# Altium schematic symbol library Schlib[1].SchLib: 27 symbols (part 3 of 4)
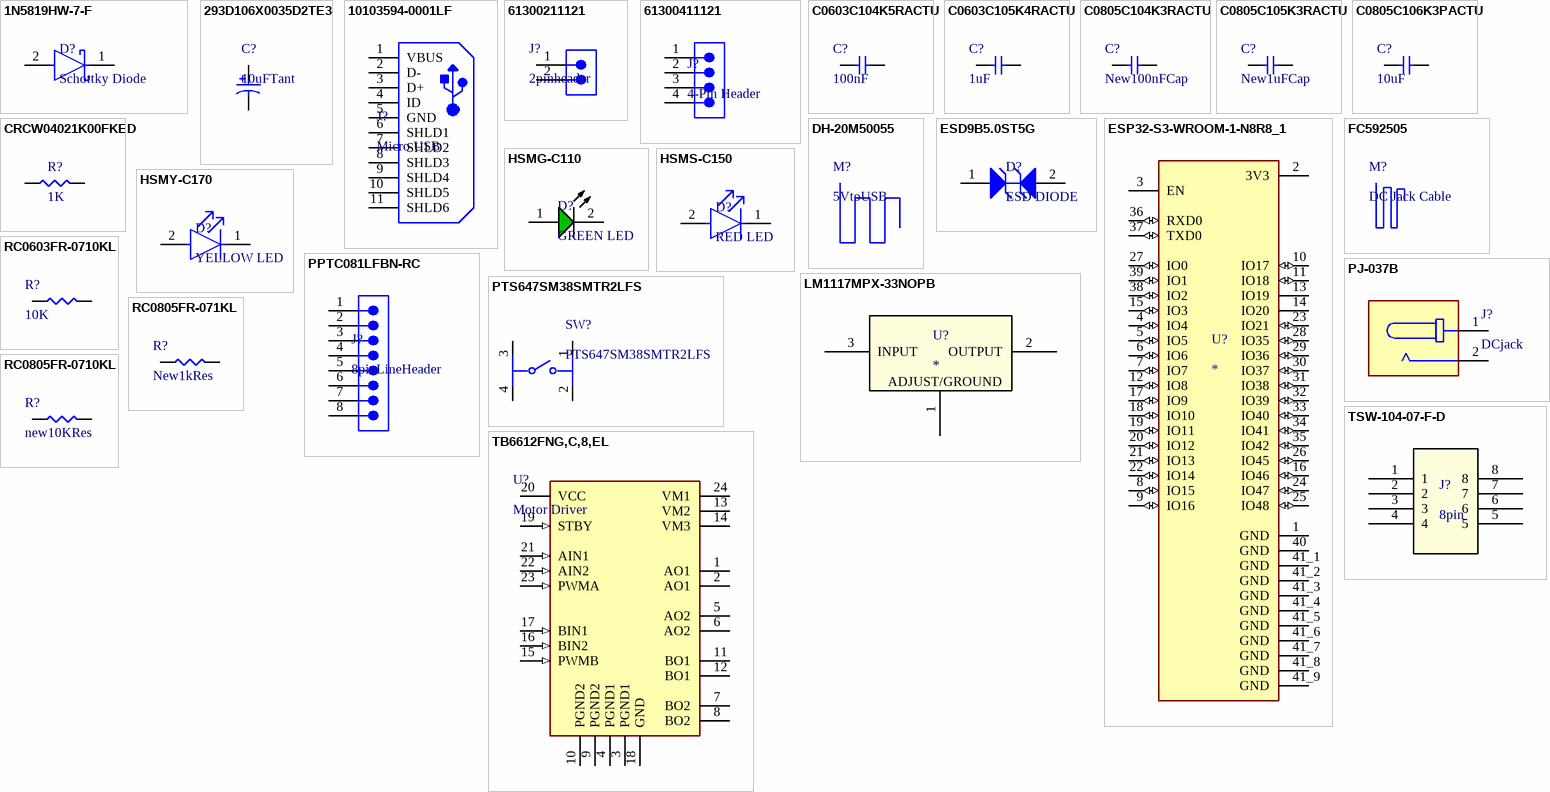
[diagram p2: symbols 1N5819HW-7-F to TSW-104-07-F-D]

## HSMG-C110
designator D?, comment GREEN LED
Surface Mount ChipLED Single Color LED, Green, Clear Untinted Nondiffused; Manufacturer: Avago; Manufacturer Part Number: HSMG-C110; Dominant Wavelength: 572nm; Forward Current: 25mA; Forward Voltage: 2.6V; Lens Color: Clear, White; Luminous Intensity: 4.5mcd; Max Power Dissipation: 78mW; Number of Circuits: 1; Peak Wavelength: 570nm; Power Rating: 65mW; Reverse Voltage: 5V; Shape: Rectangular; Test Current: 20mA; Viewing Angle: 130°; Voltage Rating (DC): 2.2V; Supplier: DigiKey; Supplier Part Number: 516-1452-1-ND; RoHS: Compliant; Category: LEDs; Stock: 2649; Pricing: 1=0.28, 10=0.194, 100=0.1365, 500=0.1102, 1000=0.10152 (USD); Case/Package: SMD/SMT; China RoHS: Compliant; Color: Green; Contact Plating: Gold; Depth: 1mm; Height: 1mm; Illumination Color: Green; Lead Free: Lead Free; Length: 3.2mm; Lens Style: Diffused; Lens Transparency: Diffused; Lifecycle Status: Production; Max Operating Temperature: 85°C; Min Operating Temperature: -40°C; Mounting Technology: Surface Mount; Number of Elements: 1; Number of LEDs: 1; Pins: 2; Number of Terminals: 3; Packaging: Cut Tape; Power Dissipation: 78mW; Radiation Hardening: No; REACH SVHC: Yes; Schedule B: 8541402000|8541402000|8541402000|8541402000|8541402000; Wavelength: 572nm; Width: 1.5mm; ComponentLink1URL: https://datasheet.octopart.com:443/HSMG-C110-Broadcom-datasheet-11546876.pdf?src-supplier=Avago; ComponentLink1Description: https://datasheet.octopart.com:443/HSMG-C110-Broadcom-datasheet-11546876.pdf?src-supplier=Avago; ComponentLink2URL: https://datasheet.octopart.com:443/HSMG-C110-Broadcom-datasheet-179995514.pdf?src-supplier=IHS; ComponentLink2Description: https://datasheet.octopart.com:443/HSMG-C110-Broadcom-datasheet-179995514.pdf?src-supplier=IHS; ComponentLink3URL: https://datasheet.octopart.com:443/HSMG-C110-Avago-datasheet-10307877.pdf?src-supplier=Newark; ComponentLink3Description: https://datasheet.octopart.com:443/HSMG-C110-Avago-datasheet-10307877.pdf?src-supplier=Newark; ComponentLink4URL: https://datasheet.octopart.com:443/HSMG-C110-Broadcom-datasheet-26698224.pdf?src-supplier=Newark; ComponentLink4Description: https://datasheet.octopart.com:443/HSMG-C110-Broadcom-datasheet-26698224.pdf?src-supplier=Newark; ComponentLink5URL: https://datasheet.octopart.com:443/HSMG-C110-Avago-datasheet-8329607.pdf?src-supplier=Future+Electronics; ComponentLink5Description: https://datasheet.octopart.com:443/HSMG-C110-Avago-datasheet-8329607.pdf?src-supplier=Future+Electronics; ComponentLink6URL: https://datasheet.octopart.com:443/HSMG-C110-Avago-datasheet-7834016.pdf?src-supplier=Jameco; ComponentLink6Description: https://datasheet.octopart.com:443/HSMG-C110-Avago-datasheet-7834016.pdf?src-supplier=Jameco; ComponentLink7URL: https://datasheet.octopart.com:443/HSMG-C110-Avago-datasheet-8432.pdf?src-supplier=DigiKey; ComponentLink7Description: https://datasheet.octopart.com:443/HSMG-C110-Avago-datasheet-8432.pdf?src-supplier=DigiKey
footprint AVAG-HSMX-C110_V (SMD, 3-Leads, Body 3.2x1mm)
pins: 1 A, 2 K

## HSMS-C150
designator D?, comment RED LED
LED Uni-Color Hi-Eff. Red 630nm 2-Pin Chip LED T/R / LED RED DIFFUSED 1206 SMD; Manufacturer: Avago; Manufacturer Part Number: HSMS-C150; Color: Orange; Dominant Wavelength: 626nm; Forward Current: 25mA; Forward Voltage: 2.6V; Lens Color: Clear, White; Luminous Intensity: 2.8mcd; Max Junction Temperature (Tj): 95°C; Number of Circuits: 1; Power Dissipation: 65mW; Reverse Voltage: 5V; Shape: Rectangular; Test Current: 20mA; Viewing Angle: 170°; Supplier: DigiKey; Supplier Part Number: 516-1440-1-ND; RoHS: Compliant; Category: LEDs; Stock: 85183; Pricing: 1=0.29, 10=0.201, 100=0.1412, 500=0.11414, 1000=0.10521 (USD); Case/Package: 1206; Case Code (Imperial): 1206; Case Code (Metric): 3216; China RoHS: Compliant; Depth: 1.6mm; Height: 1.1mm; Illumination Color: Red; Lead Free: Lead Free; Length: 3.2mm; Lens Style: Diffused; Lens Transparency: Diffused; Lifecycle Status: Production; Max Operating Temperature: 85°C; Min Operating Temperature: -40°C; Mounting Technology: Surface Mount; Number of Elements: 1; Number of LEDs: 1; Pins: 2; Number of Terminals: 2; Packaging: Cut Tape; Peak Wavelength: 630nm; Power Rating: 65mW; Radiation Hardening: No; REACH SVHC: Yes; Schedule B: 8541402000|8541402000|8541402000|8541402000|8541402000; Terminal Pitch: 2.7mm; Wavelength: 626nm; Width: 1.6mm; ComponentLink1URL: https://datasheet.octopart.com:443/HSMS-C150-Broadcom-datasheet-11546876.pdf?src-supplier=Farnell; ComponentLink1Description: https://datasheet.octopart.com:443/HSMS-C150-Broadcom-datasheet-11546876.pdf?src-supplier=Farnell; ComponentLink2URL: https://datasheet.octopart.com:443/HSMS-C150.-Avago-datasheet-505973.pdf?src-supplier=Farnell; ComponentLink2Description: https://datasheet.octopart.com:443/HSMS-C150.-Avago-datasheet-505973.pdf?src-supplier=Farnell; ComponentLink3URL: https://datasheet.octopart.com:443/HSMS-C150.-Avago-datasheet-500352.pdf?src-supplier=Farnell; ComponentLink3Description: https://datasheet.octopart.com:443/HSMS-C150.-Avago-datasheet-500352.pdf?src-supplier=Farnell; ComponentLink4URL: https://datasheet.octopart.com:443/HSMS-C150-Broadcom-datasheet-179995514.pdf?src-supplier=IHS; ComponentLink4Description: https://datasheet.octopart.com:443/HSMS-C150-Broadcom-datasheet-179995514.pdf?src-supplier=IHS; ComponentLink5URL: https://datasheet.octopart.com:443/HSMS-C150-Avago-datasheet-10307877.pdf?src-supplier=Newark; ComponentLink5Description: https://datasheet.octopart.com:443/HSMS-C150-Avago-datasheet-10307877.pdf?src-supplier=Newark; ComponentLink6URL: https://datasheet.octopart.com:443/HSMS-C150-Avago-datasheet-14175028.pdf?src-supplier=iiiC; ComponentLink6Description: https://datasheet.octopart.com:443/HSMS-C150-Avago-datasheet-14175028.pdf?src-supplier=iiiC; ComponentLink7URL: https://datasheet.octopart.com:443/HSMS-C150-Avago-datasheet-7559354.pdf?src-supplier=Future+Electronics; ComponentLink7Description: https://datasheet.octopart.com:443/HSMS-C150-Avago-datasheet-7559354.pdf?src-supplier=Future+Electronics; ComponentLink8URL: https://datasheet.octopart.com:443/HSMS-C150-Avago-datasheet-7278276.pdf?src-supplier=Jameco; ComponentLink8Description: https://datasheet.octopart.com:443/HSMS-C150-Avago-datasheet-7278276.pdf?src-supplier=Jameco; ComponentLink9URL: https://datasheet.octopart.com:443/HSMS-C150-Avago-datasheet-9899724.pdf?src-supplier=RS+(Formerly+Allied+Electronics); ComponentLink9Description: https://datasheet.octopart.com:443/HSMS-C150-Avago-datasheet-9899724.pdf?src-supplier=RS+(Formerly+Allied+Electronics); ComponentLink10URL: https://datasheet.octopart.com:443/HSMS-C150-Avago-datasheet-8432.pdf?src-supplier=DigiKey; ComponentLink10Description: https://datasheet.octopart.com:443/HSMS-C150-Avago-datasheet-8432.pdf?src-supplier=DigiKey
footprint FP-HSMS-C150-MFG
pins: 1 C, 2 A

## HSMY-C170
designator D?, comment YELLOW LED
LED YELLOW DIFFUSED CHIP SMD Yellow 586nm LED Indication - Discrete 2.1V 0805 (2012 Metric); Manufacturer: Avago; Manufacturer Part Number: HSMY-C170; Forward Current: 20mA; Forward Voltage: 2.6V; Lens Color: Clear, White; Luminous Intensity: 2.8mcd; Max Power Dissipation: 52mW; Number of Circuits: 1; Peak Wavelength: 589nm; Reverse Voltage: 5V; Shape: Rectangular; Viewing Angle: 170°; Supplier: DigiKey; Supplier Part Number: 516-1433-1-ND; RoHS: Compliant; Category: LEDs; Stock: 56777; Pricing: 1=0.3, 10=0.204, 100=0.1435, 500=0.1161, 1000=0.10704, 2000=0.09931 (USD); Case/Package: 0805; Case Code (Imperial): 0805; Case Code (Metric): 2012; China RoHS: Compliant; Color: Yellow; Contact Plating: Gold; Depth: 1.25mm; Dominant Wavelength: 586nm; Height: 800µm; Illumination Color: Yellow; Lead Free: Lead Free; Length: 2mm; Lens Style: Diffused; Lens Transparency: Diffused; Lifecycle Status: Production; Max Operating Temperature: 85°C; Min Operating Temperature: -40°C; Mounting Technology: Surface Mount; Number of Elements: 1; Number of LEDs: 1; Pins: 2; Number of Terminals: 2; Packaging: Cut Tape; Power Dissipation: 52mW; Power Rating: 52mW; Radiation Hardening: No; REACH SVHC: Yes; Schedule B: 8541402000|8541402000|8541402000|8541402000|8541402000; Terminal Pitch: 1.6mm; Test Current: 20mA; Wavelength: 586nm; Width: 1.25mm; ComponentLink1URL: https://datasheet.octopart.com:443/HSMY-C170-Broadcom-datasheet-11546876.pdf?src-supplier=Avago; ComponentLink1Description: https://datasheet.octopart.com:443/HSMY-C170-Broadcom-datasheet-11546876.pdf?src-supplier=Avago; ComponentLink2URL: https://datasheet.octopart.com:443/HSMY-C170-Broadcom-datasheet-179995514.pdf?src-supplier=IHS; ComponentLink2Description: https://datasheet.octopart.com:443/HSMY-C170-Broadcom-datasheet-179995514.pdf?src-supplier=IHS; ComponentLink3URL: https://datasheet.octopart.com:443/HSMY-C170-Avago-datasheet-10307877.pdf?src-supplier=Newark; ComponentLink3Description: https://datasheet.octopart.com:443/HSMY-C170-Avago-datasheet-10307877.pdf?src-supplier=Newark; ComponentLink4URL: https://datasheet.octopart.com:443/HSMY-C170-Broadcom-datasheet-26698234.pdf?src-supplier=Newark; ComponentLink4Description: https://datasheet.octopart.com:443/HSMY-C170-Broadcom-datasheet-26698234.pdf?src-supplier=Newark; ComponentLink5URL: https://datasheet.octopart.com:443/HSMY-C170-Avago-datasheet-7559354.pdf?src-supplier=element14+APAC; ComponentLink5Description: https://datasheet.octopart.com:443/HSMY-C170-Avago-datasheet-7559354.pdf?src-supplier=element14+APAC; ComponentLink6URL: https://datasheet.octopart.com:443/HSMY-C170-Avago-datasheet-8432.pdf?src-supplier=Farnell; ComponentLink6Description: https://datasheet.octopart.com:443/HSMY-C170-Avago-datasheet-8432.pdf?src-supplier=Farnell; ComponentLink7URL: https://datasheet.octopart.com:443/HSMY-C170-Avago-datasheet-10459301.pdf?src-supplier=Jameco; ComponentLink7Description: https://datasheet.octopart.com:443/HSMY-C170-Avago-datasheet-10459301.pdf?src-supplier=Jameco
footprint LED_HSMY-C170
pins: 1 C, 2 A

## LM1117MPX-33NOPB
designator U?
800-mA 15-V linear voltage regulator 800-mA 15-V linear voltage regulator; Manufacturer: onsemi; Manufacturer Part Number: LM1117MPX-33NOPB; Manufacturer Lifecycle Status: ACTIVE; Accuracy: 1%; Dropout Voltage: 1.07V; Max Supply Voltage: 15V; Max Junction Temperature (Tj): 150°C; Min Input Voltage: 4.75V; Number of Channels: 1; Output Current: 800mA; Output Voltage: 3.3V; Voltage Tolerance: 2%; Supplier: DigiKey; Supplier Part Number: 488-LM1117MPX-33NOPBDKR-ND; RoHS: Compliant; Category: LDO Voltage Regulators; Stock: 7642; Pricing: 1=0.57, 10=0.4, 25=0.3576, 100=0.3116, 250=0.28964, 500=0.27638, 1000=0.26546 (USD); Ambient Temperature Range High: 125°C; Case/Package: SOT-223; China RoHS: Compliant; Height: 1.8mm; Height - Seated (Max): 1.8mm; Length: 6.5mm; Lifecycle Status: Production; Max Operating Temperature: 125°C; Min Operating Temperature: 0°C; Number of Circuits: 1; Number of Outputs: 1; Number of Terminals: 4; REACH SVHC: Yes; Terminal Pitch: 2.3mm; Width: 3.5mm; ComponentLink1URL: https://datasheet.octopart.com:443/LM1117MPX-33NOPB-onsemi-datasheet-164331219.pdf?src-supplier=Upverter; ComponentLink1Description: https://datasheet.octopart.com:443/LM1117MPX-33NOPB-onsemi-datasheet-164331219.pdf?src-supplier=Upverter; ComponentLink2URL: https://sigma.octopart.com:443/138897734/technical_drawing/onsemi-LM1117MPX-33NOPB.pdf?src-supplier=Upverter; ComponentLink2Description: https://sigma.octopart.com:443/138897734/technical_drawing/onsemi-LM1117MPX-33NOPB.pdf?src-supplier=Upverter; ComponentLink3URL: https://datasheet.octopart.com:443/LM1117MPX-33NOPB-ON-Semiconductor-datasheet-141931467.pdf?src-supplier=JRH+Electronics; ComponentLink3Description: https://datasheet.octopart.com:443/LM1117MPX-33NOPB-ON-Semiconductor-datasheet-141931467.pdf?src-supplier=JRH+Electronics; ComponentLink4URL: https://datasheet.octopart.com:443/LM1117MPX-33NOPB-onsemi-datasheet-180961324.pdf?src-supplier=IHS; ComponentLink4Description: https://datasheet.octopart.com:443/LM1117MPX-33NOPB-onsemi-datasheet-180961324.pdf?src-supplier=IHS; ComponentLink5URL: https://datasheet.octopart.com:443/LM1117MPX-33NOPB-onsemi-datasheet-168933395.pdf?src-supplier=Future+Electronics; ComponentLink5Description: https://datasheet.octopart.com:443/LM1117MPX-33NOPB-onsemi-datasheet-168933395.pdf?src-supplier=Future+Electronics; ComponentLink6URL: http://sigma.octopart.com:80/reach_statement/ON-Semiconductor-company-79.pdf?src-supplier=Compliance+Statements; ComponentLink6Description: http://sigma.octopart.com:80/reach_statement/ON-Semiconductor-company-79.pdf?src-supplier=Compliance+Statements; ComponentLink7URL: https://octopart.com:443/opatz8j6/c1?t=Iw_9X4aOcrUl-cPA66dx16ukuJxMweABa0km8qscBKXSU1vYCRq_e4FXJATwxyh124XiaTPtNJ3B9yRxDq_EhavdUU79idWvw_QVFCQ2fS5CQqS4hTb1ifBnFTR-Su749rPEe84Onex6ks4rk9ucP4YVcK4nPzU0XZG6GDKd_pBht-2jM3AE4nGkwXEe6Ksn9x1m2VuOf8AcrWjARzJEmpW0n5uUxMgVrQJ7fVm_XNdLbK-fij8J55BUuF-vYILHBnvsIretFbyyyfqB2jts5YEtD5ypze82yLluaey9lD5qNXSO72sWgsX8XjPSqf-JEzZbFkY95Oi87kzI9m6odTwj0wO7px43NJiKE00YhpVnv7QYBQ&src-supplier=Compliance+Statements; ComponentLink7Description: https://octopart.com:443/opatz8j6/c1?t=Iw_9X4aOcrUl-cPA66dx16ukuJxMweABa0km8qscBKXSU1vYCRq_e4FXJATwxyh124XiaTPtNJ3B9yRxDq_EhavdUU79idWvw_QVFCQ2fS5CQqS4hTb1ifBnFTR-Su749rPEe84Onex6ks4rk9ucP4YVcK4nPzU0XZG6GDKd_pBht-2jM3AE4nGkwXEe6Ksn9x1m2VuOf8AcrWjARzJEmpW0n5uUxMgVrQJ7fVm_XNdLbK-fij8J55BUuF-vYILHBnvsIretFbyyyfqB2jts5YEtD5ypze82yLluaey9lD5qNXSO72sWgsX8XjPSqf-JEzZbFkY95Oi87kzI9m6odTwj0wO7px43NJiKE00YhpVnv7QYBQ&src-supplier=Compliance+Statements
footprint SOT223-318H_OSI
pins: 1 ADJUST/GROUND, 2 OUTPUT (power), 3 INPUT

## PJ-037B
designator J?, comment DCjack
2.5 x 6.5 mm, 2.5 A, Horizontal, Through Hole, Dc Power Jack Connector; Manufacturer: Same Sky; Manufacturer Part Number: PJ-037B; Current Rating: 2.5A; Inside Diameter: 2.5mm; Number of Conductors: 2; Outside Diameter: 6.5mm; Shielding: No; Voltage Rating: 24V; Supplier: DigiKey; Supplier Part Number: CP-037B-ND; RoHS: Compliant; Category: Power Connectors; Stock: 35819; Pricing: 1=0.51, 10=0.431, 25=0.4044, 50=0.385, 100=0.3665, 250=0.34352, 500=0.3271, 1000=0.31147, 2500=0.29196 (USD); Contact Material: Brass; Contact Plating: Tin; Lifecycle Status: Production; Mounting Technology: Through Hole; REACH SVHC: Yes; Schedule B: 8536695050, 8536695050|8536695050, 8536695050|8536695050|8536695050, 8536695050|8536695050|8536695050|8536695050; Voltage Rating (DC): 24V; ComponentLink1URL: https://datasheet.octopart.com:443/PJ-037B-Same-Sky-datasheet-188828269.pdf?src-supplier=Same+Sky; ComponentLink1Description: https://datasheet.octopart.com:443/PJ-037B-Same-Sky-datasheet-188828269.pdf?src-supplier=Same+Sky; ComponentLink2URL: https://datasheet.octopart.com:443/PJ-037B-Same-Sky-datasheet-181917287.pdf?src-supplier=Same+Sky; ComponentLink2Description: https://datasheet.octopart.com:443/PJ-037B-Same-Sky-datasheet-181917287.pdf?src-supplier=Same+Sky; ComponentLink3URL: https://datasheet.octopart.com:443/PJ-037B-Same-Sky-datasheet-181917286.pdf?src-supplier=Same+Sky; ComponentLink3Description: https://datasheet.octopart.com:443/PJ-037B-Same-Sky-datasheet-181917286.pdf?src-supplier=Same+Sky; ComponentLink4URL: https://datasheet.octopart.com:443/PJ-037B-CUI-Devices-datasheet-175924779.pdf?src-supplier=Same+Sky; ComponentLink4Description: https://datasheet.octopart.com:443/PJ-037B-CUI-Devices-datasheet-175924779.pdf?src-supplier=Same+Sky; ComponentLink5URL: https://datasheet.octopart.com:443/PJ-037B-CUI-Devices-datasheet-137941219.pdf?src-supplier=Same+Sky; ComponentLink5Description: https://datasheet.octopart.com:443/PJ-037B-CUI-Devices-datasheet-137941219.pdf?src-supplier=Same+Sky; ComponentLink6URL: https://datasheet.octopart.com:443/PJ-037B-CUI-Devices-datasheet-180437400.pdf?src-supplier=IHS; ComponentLink6Description: https://datasheet.octopart.com:443/PJ-037B-CUI-Devices-datasheet-180437400.pdf?src-supplier=IHS; ComponentLink7URL: https://datasheet.octopart.com:443/PJ-037B-Same-Sky-datasheet-182880908.pdf?src-supplier=Electro+Sonic; ComponentLink7Description: https://datasheet.octopart.com:443/PJ-037B-Same-Sky-datasheet-182880908.pdf?src-supplier=Electro+Sonic; ComponentLink8URL: https://datasheet.octopart.com:443/PJ-037B-CUI-Devices-datasheet-175925580.pdf?src-supplier=Master+Electronics; ComponentLink8Description: https://datasheet.octopart.com:443/PJ-037B-CUI-Devices-datasheet-175925580.pdf?src-supplier=Master+Electronics; ComponentLink9URL: https://datasheet.octopart.com:443/PJ-037B-CUI-Devices-datasheet-141000227.pdf?src-supplier=Master+Electronics; ComponentLink9Description: https://datasheet.octopart.com:443/PJ-037B-CUI-Devices-datasheet-141000227.pdf?src-supplier=Master+Electronics; ComponentLink10URL: https://datasheet.octopart.com:443/PJ-037B-CUI-Devices-datasheet-103110664.pdf?src-supplier=Master+Electronics; ComponentLink10Description: https://datasheet.octopart.com:443/PJ-037B-CUI-Devices-datasheet-103110664.pdf?src-supplier=Master+Electronics; ComponentLink11URL: https://datasheet.octopart.com:443/PJ-037B-Same-Sky-datasheet-189105172.pdf?src-supplier=Master+Electronics; ComponentLink11Description: https://datasheet.octopart.com:443/PJ-037B-Same-Sky-datasheet-189105172.pdf?src-supplier=Master+Electronics; ComponentLink12URL: https://datasheet.octopart.com:443/PJ-037B-Same-Sky-datasheet-182049853.pdf?src-supplier=Future+Electronics; ComponentLink12Description: https://datasheet.octopart.com:443/PJ-037B-Same-Sky-datasheet-182049853.pdf?src-supplier=Future+Electronics; ComponentLink13URL: https://datasheet.octopart.com:443/PJ-037B-CUI-Devices-datasheet-175923562.pdf?src-supplier=Future+Electronics; ComponentLink13Description: https://datasheet.octopart.com:443/PJ-037B-CUI-Devices-datasheet-175923562.pdf?src-supplier=Future+Electronics; ComponentLink14URL: https://datasheet.octopart.com:443/PJ-037B-CUI-Devices-datasheet-137760685.pdf?src-supplier=Future+Electronics; ComponentLink14Description: https://datasheet.octopart.com:443/PJ-037B-CUI-Devices-datasheet-137760685.pdf?src-supplier=Future+Electronics; ComponentLink15URL: https://datasheet.octopart.com:443/PJ-037B-CUI-Devices-datasheet-175927596.pdf?src-supplier=CUI+Devices+SCT; ComponentLink15Description: https://datasheet.octopart.com:443/PJ-037B-CUI-Devices-datasheet-175927596.pdf?src-supplier=CUI+Devices+SCT; ComponentLink16URL: https://datasheet.octopart.com:443/PJ-037B-CUI-Devices-datasheet-142370758.pdf?src-supplier=CUI+Devices+SCT; ComponentLink16Description: https://datasheet.octopart.com:443/PJ-037B-CUI-Devices-datasheet-142370758.pdf?src-supplier=CUI+Devices+SCT; ComponentLink17URL: https://octopart.com:443/opatz8j6/c1?t=ugIBICy-aquGENpJ5UVE1kONiWm4Jmye08y8HK-0dHugvEvDShjkU2vkALkg81eMeYqXvZhRpG0R8tPN40EocjuskCAh7XxVN8JS1a7nX6yDn71JifNfY55yLydMfUID1IxMe-aG7_idBqI2aybvW_B1_vyNQqKRAl91P9Ny1aLJlgl7jdVw_pwtRfT4Ujqw-bsi_OwdGpNYzqY4SWKQwVW7yzOyktRHaazl5dbIhoFUwRdxDdlgsrKZx7IYVSzXwdqlLXdu6s_3ABRwIRLewOWFjmWEjHc_DG0qkv0PjiuITWn6CbdvXjGiMH0odnPZUlRjUK2KM54VuGAzqWG-d-5NxI2_5YZNMA&src-supplier=Compliance+Statements; ComponentLink17Description: https://octopart.com:443/opatz8j6/c1?t=ugIBICy-aquGENpJ5UVE1kONiWm4Jmye08y8HK-0dHugvEvDShjkU2vkALkg81eMeYqXvZhRpG0R8tPN40EocjuskCAh7XxVN8JS1a7nX6yDn71JifNfY55yLydMfUID1IxMe-aG7_idBqI2aybvW_B1_vyNQqKRAl91P9Ny1aLJlgl7jdVw_pwtRfT4Ujqw-bsi_OwdGpNYzqY4SWKQwVW7yzOyktRHaazl5dbIhoFUwRdxDdlgsrKZx7IYVSzXwdqlLXdu6s_3ABRwIRLewOWFjmWEjHc_DG0qkv0PjiuITWn6CbdvXjGiMH0odnPZUlRjUK2KM54VuGAzqWG-d-5NxI2_5YZNMA&src-supplier=Compliance+Statements; ComponentLink18URL: https://octopart.com:443/opatz8j6/c1?t=xY83QJYeMgOnbRCoY0MJZ0kIo5YAXWIf_KfjZSMQzpzyrl-9JxtFTr69jnymLJkbjzK7Lh6EscJK24nUCwiICczRq7NMp0xGoLCpTn4gxZ7zYxKXZakIj_zjT2uutoWIv4bSHRlvdWmCCDEJby7LfgMYru2nGKwlO6BQJX4zEfs7hC0wK24gbVPjc3w0Y3STzCc5vE401SZFfM-fhIhrbaea6tBhZCBd9UTpy56_2aftF9KpGkqVHM1PWBKk6XRT528tR6sLSTUs4PvC1IA-VCaeEn6UjqcO_AYW1W_1CbF2_ohw-l0h8owecFjxbO9CCibDaBOKVsGDoWbcOMeCxhnLSnLp&src-supplier=Compliance+Statements; ComponentLink18Description: https://octopart.com:443/opatz8j6/c1?t=xY83QJYeMgOnbRCoY0MJZ0kIo5YAXWIf_KfjZSMQzpzyrl-9JxtFTr69jnymLJkbjzK7Lh6EscJK24nUCwiICczRq7NMp0xGoLCpTn4gxZ7zYxKXZakIj_zjT2uutoWIv4bSHRlvdWmCCDEJby7LfgMYru2nGKwlO6BQJX4zEfs7hC0wK24gbVPjc3w0Y3STzCc5vE401SZFfM-fhIhrbaea6tBhZCBd9UTpy56_2aftF9KpGkqVHM1PWBKk6XRT528tR6sLSTUs4PvC1IA-VCaeEn6UjqcO_AYW1W_1CbF2_ohw-l0h8owecFjxbO9CCibDaBOKVsGDoWbcOMeCxhnLSnLp&src-supplier=Compliance+Statements; ComponentLink19URL: https://octopart.com:443/opatz8j6/c1?t=FzGMKkhviOWT8PLmgXVIsGD7OC-ZKcDZSdb9rjzUd-4CdYnadLpmQ77JdXOitmMu4wWORmNPfxYZ17cA6TaEO6Mm1ZgdO8lXcwXJppTA043W0gQ2P4U-7E6ujoGSvuNzQJMAYjSV5q33INZyelMHWI8ENsIoBunWKjTSudwCbgSa82zECeXZpdhIyaUBolyjB6K4eLrM_w-l1dTNFW2JX6bvmSbC1AwvuqFFcPMpPK-A1MOExm4S1J8WQqkV9WeO-mmR1e_4r-vTZ2n8Sy88Wsu_EYkFLu4NtxQoLu7MVh6vC8N1AZg7LWiCGS2Ok64pLyM3awZnEG6CfUT4hTLqw-HWZb4BW3AwSw&src-supplier=Compliance+Statements; ComponentLink19Description: https://octopart.com:443/opatz8j6/c1?t=FzGMKkhviOWT8PLmgXVIsGD7OC-ZKcDZSdb9rjzUd-4CdYnadLpmQ77JdXOitmMu4wWORmNPfxYZ17cA6TaEO6Mm1ZgdO8lXcwXJppTA043W0gQ2P4U-7E6ujoGSvuNzQJMAYjSV5q33INZyelMHWI8ENsIoBunWKjTSudwCbgSa82zECeXZpdhIyaUBolyjB6K4eLrM_w-l1dTNFW2JX6bvmSbC1AwvuqFFcPMpPK-A1MOExm4S1J8WQqkV9WeO-mmR1e_4r-vTZ2n8Sy88Wsu_EYkFLu4NtxQoLu7MVh6vC8N1AZg7LWiCGS2Ok64pLyM3awZnEG6CfUT4hTLqw-HWZb4BW3AwSw&src-supplier=Compliance+Statements; ComponentLink20URL: https://octopart.com:443/opatz8j6/c1?t=yyvtSRofrppp-5KrzO7cVDg_UkI1Q6UEwrOzVOQOIp0n2wkAoZ4RrB1A8L3Fx-rNVFbAG4w0SpWUnSE2EYvc_xCoNcFsz4mWjRDYbK7qXyFxie6BJuhhldDhR2CTLFpcPNAGUkq5xMGzJTFkzHUG2Xp4Owqs3EwllU3_e3OsiGRn8D0IJRAOELGfXrDY2XigBaSyPkyUIYCXsKazcIG_RxmnY6Umsst-42oAFgQzEcY0KbnV4ZcHR8-zLKv--FJ4Mts6nsXDR5OGkd2fB0oceMNf2TFHBMNUzSQjnwujgTz6-O4srKLl763V3rMq7gnR7z5AAFxOnZINBCQgGlAyc9xKVT2w&src-supplier=Compliance+Statements; ComponentLink20Description: https://octopart.com:443/opatz8j6/c1?t=yyvtSRofrppp-5KrzO7cVDg_UkI1Q6UEwrOzVOQOIp0n2wkAoZ4RrB1A8L3Fx-rNVFbAG4w0SpWUnSE2EYvc_xCoNcFsz4mWjRDYbK7qXyFxie6BJuhhldDhR2CTLFpcPNAGUkq5xMGzJTFkzHUG2Xp4Owqs3EwllU3_e3OsiGRn8D0IJRAOELGfXrDY2XigBaSyPkyUIYCXsKazcIG_RxmnY6Umsst-42oAFgQzEcY0KbnV4ZcHR8-zLKv--FJ4Mts6nsXDR5OGkd2fB0oceMNf2TFHBMNUzSQjnwujgTz6-O4srKLl763V3rMq7gnR7z5AAFxOnZINBCQgGlAyc9xKVT2w&src-supplier=Compliance+Statements
footprint CUI_PJ-037B
pins: 1, 2

## PPTC081LFBN-RC
designator J?, comment 8pinLineHeader
Female, 8C, Straight, .100"CC; 3.20mm Tail, No Mt. 100u" Tin; PBT, Phos Bronze, 105 C; Manufacturer: Sullins; Manufacturer Part Number: PPTC081LFBN-RC; Connector Type: Header, Socket; Current Rating: 3A; Dielectric Material: Polyester; Number of Positions: 8; Pitch: 2.54mm; Plating Thickness: 2.54µm; Supplier: DigiKey; Supplier Part Number: S7006-ND; RoHS: Compliant; Category: Card Edge Connectors; Stock: 36413; Pricing: 1=0.51, 10=0.435, 400=0.33535, 800=0.31933, 1200=0.31031, 5200=0.2798, 10000=0.26719 (USD); Color: Black; Contact Gender: Female; Contact Material: Bronze; Contact Plating: Tin; Height: 8.5mm; Housing Material: Plastic; Lead Free: Lead Free; Length: 20.8mm; Lifecycle Status: Production; Max Operating Temperature: 105°C; Min Operating Temperature: -40°C; Mounting Technology: Through Hole; Pins: 8; Number of Rows: 1; Packaging: Bulk; REACH SVHC: Yes; Terminal Pitch: 2.54mm; Termination: Solder; Width: 2.5mm; ComponentLink1URL: https://datasheet.octopart.com:443/PPTC081LFBN-RC-Sullins-datasheet-138810743.pdf?src-supplier=IHS; ComponentLink1Description: https://datasheet.octopart.com:443/PPTC081LFBN-RC-Sullins-datasheet-138810743.pdf?src-supplier=IHS; ComponentLink2URL: https://datasheet.octopart.com:443/PPTC081LFBN-RC-Sullins-datasheet-47864048.pdf?src-supplier=Upverter; ComponentLink2Description: https://datasheet.octopart.com:443/PPTC081LFBN-RC-Sullins-datasheet-47864048.pdf?src-supplier=Upverter; ComponentLink3URL: https://datasheet.octopart.com:443/PPTC081LFBN-RC-Sullins-datasheet-41308905.pdf?src-supplier=Future+Electronics; ComponentLink3Description: https://datasheet.octopart.com:443/PPTC081LFBN-RC-Sullins-datasheet-41308905.pdf?src-supplier=Future+Electronics; ComponentLink4URL: https://datasheet.octopart.com:443/PPTC081LFBN-RC-Sullins-datasheet-12511165.pdf?src-supplier=Future+Electronics; ComponentLink4Description: https://datasheet.octopart.com:443/PPTC081LFBN-RC-Sullins-datasheet-12511165.pdf?src-supplier=Future+Electronics
footprint PPTC081LFBN-RC
pins: 1, 2, 3, 4, 5, 6, 7, 8

## PTS647SM38SMTR2LFS
designator SW?
Switch Tactile OFF Mom SPST Round Button Gull Wing 50mA 12VDC 100000Cycles 1.77N Surface Mount T/R; Manufacturer: C&K Components; Contact Resistance: 100mΩ; Electrical Life: 100kcycles; Max Voltage Rating (DC): 12V; Number of Positions: 1; Operating Force: 2.26N; Supplier: DigiKey; Supplier Part Number: 108-PTS647SM38SMTR2LFSCT-ND; Manufacturer Part Number: PTS647SM38SMTR2LFS; RoHS: Compliant; Category: Tactile Switches; Stock: 37562; Pricing: 1=0.26, 10=0.226, 25=0.2116, 100=0.1897, 250=0.17588, 500=0.16596, 1000=0.15666 (USD); Contact Current Rating: 50mA; Height: 2.9mm; Insulation Resistance: 100MΩ; Length: 4.5mm; Life (Cycles): 100kcycles; Lifecycle Status: Production; Max Current Rating: 50mA; Max Operating Temperature: 70°C; Min Operating Temperature: -40°C; Mounting Technology: Surface Mount; REACH SVHC: Yes; Schedule B: 8536509065, 8536509065|8536509065, 8536509065|8536509065|8536509065, 8536509065|8536509065|8536509065|8536509065; Throw Configuration: SPST; Voltage Rating (DC): 12V; ComponentLink1URL: https://datasheet.octopart.com:443/PTS647SM38SMTR2LFS-C%26K-Components-datasheet-180017464.pdf?src-supplier=IHS; ComponentLink1Description: https://datasheet.octopart.com:443/PTS647SM38SMTR2LFS-C%26K-Components-datasheet-180017464.pdf?src-supplier=IHS; ComponentLink2URL: https://datasheet.octopart.com:443/PTS647SM38SMTR2LFS-C%26K-Components-datasheet-117317067.pdf?src-supplier=Future+Electronics; ComponentLink2Description: https://datasheet.octopart.com:443/PTS647SM38SMTR2LFS-C%26K-Components-datasheet-117317067.pdf?src-supplier=Future+Electronics; ComponentLink3URL: https://datasheet.octopart.com:443/PTS647SM38SMTR2-LFS-C%26K-Components-datasheet-175422368.pdf?src-supplier=Farnell; ComponentLink3Description: https://datasheet.octopart.com:443/PTS647SM38SMTR2-LFS-C%26K-Components-datasheet-175422368.pdf?src-supplier=Farnell; ComponentLink4URL: https://datasheet.octopart.com:443/PTS647SM38SMTR2LFS-C%26K-Components-datasheet-145017121.pdf?src-supplier=Electro+Sonic; ComponentLink4Description: https://datasheet.octopart.com:443/PTS647SM38SMTR2LFS-C%26K-Components-datasheet-145017121.pdf?src-supplier=Electro+Sonic; ComponentLink5URL: https://datasheet.octopart.com:443/PTS-647-SM38-SMTR2-LFS-C%26K-Components-datasheet-119449707.pdf?src-supplier=RS+(Formerly+Allied+Electronics); ComponentLink5Description: https://datasheet.octopart.com:443/PTS-647-SM38-SMTR2-LFS-C%26K-Components-datasheet-119449707.pdf?src-supplier=RS+(Formerly+Allied+Electronics)
footprint FP-PTS647SM38SMTR2LFS-MFG
pins: 1, 2, 3, 4

## RC0603FR-0710KL
designator R?, comment 10K
100mW Thick Film Resistors ±100ppm/℃ ±1% 10kΩ 0603 Chip Resistor - Surface Mount ROHS; Manufacturer: Yageo Group; Manufacturer Part Number: RC0603FR-0710KL; Temperature Coefficient: 100ppm/°C; Voltage Rating: 75V; Voltage Rating (DC): 50V; Supplier: DigiKey; Supplier Part Number: 311-10.0KHRDKR-ND; RoHS: Compliant; Category: Chip SMD Resistors; Stock: 8811581; Pricing: 1=0.1, 10=0.006, 25=0.0052 (USD); Case/Package: 0603; Case Code (Imperial): 0603; Case Code (Metric): 0603; China RoHS: Non-Compliant; Composition: Thick Film; Depth: 800µm; Height: 450µm; Lead Free: Lead Free; Lead Pitch: 300µm; Length: 1.6mm; Lifecycle Status: Production; Max Operating Temperature: 155°C; Military Standard: Not; Min Operating Temperature: -55°C; Mounting Technology: Surface Mount; Pins: 2; Number of Terminals: 2; Packaging: Tape & Reel; Power Dissipation: 100mW; Power Rating: 100mW; REACH SVHC: Yes; Value: 10kΩ; Schedule B: 8533210045, 8533210045|8533210045|8533210045|8533210045|8533210045|8533210045|8533210045|8533210045|8533210045|8533210045|8533210045|8533210045|8533210045|8533210045|8533210045|8533210045|8533210045|8533210045|8533210045|8533210045|8533210045|8533210045|8533210045|85; Termination: SMD/SMT; Tolerance: 1%; Weight: 2.012816mg; Width: 800µm; Working Voltage: 75V; ComponentLink1URL: https://datasheet.octopart.com:443/RC0603FR-0710KL-Yageo-datasheet-175887523.pdf?src-supplier=IHS; ComponentLink1Description: https://datasheet.octopart.com:443/RC0603FR-0710KL-Yageo-datasheet-175887523.pdf?src-supplier=IHS; ComponentLink2URL: https://datasheet.octopart.com:443/RC0603FR-0710KL-Yageo-datasheet-103092701.pdf?src-supplier=Upverter; ComponentLink2Description: https://datasheet.octopart.com:443/RC0603FR-0710KL-Yageo-datasheet-103092701.pdf?src-supplier=Upverter; ComponentLink3URL: https://datasheet.octopart.com:443/RC0603FR-0710KL-Yageo-datasheet-98239111.pdf?src-supplier=Upverter; ComponentLink3Description: https://datasheet.octopart.com:443/RC0603FR-0710KL-Yageo-datasheet-98239111.pdf?src-supplier=Upverter; ComponentLink4URL: https://datasheet.octopart.com:443/RC0603FR-0710KL-Yageo-datasheet-141265859.pdf?src-supplier=Upverter; ComponentLink4Description: https://datasheet.octopart.com:443/RC0603FR-0710KL-Yageo-datasheet-141265859.pdf?src-supplier=Upverter; ComponentLink5URL: https://sigma.octopart.com:443/138820526/technical_drawing/Yageo-RC0603FR-0710KL.pdf?src-supplier=Upverter; ComponentLink5Description: https://sigma.octopart.com:443/138820526/technical_drawing/Yageo-RC0603FR-0710KL.pdf?src-supplier=Upverter; ComponentLink6URL: https://datasheet.octopart.com:443/RC0603FR-0710KL-Yageo-datasheet-8328172.pdf?src-supplier=Farnell; ComponentLink6Description: https://datasheet.octopart.com:443/RC0603FR-0710KL-Yageo-datasheet-8328172.pdf?src-supplier=Farnell; ComponentLink7URL: https://datasheet.octopart.com:443/RC0603FR-0710KL-Yageo-datasheet-13691069.pdf?src-supplier=Farnell; ComponentLink7Description: https://datasheet.octopart.com:443/RC0603FR-0710KL-Yageo-datasheet-13691069.pdf?src-supplier=Farnell; ComponentLink8URL: https://datasheet.octopart.com:443/RC0603FR-0710KL-Yageo-datasheet-62067350.pdf?src-supplier=element14+APAC; ComponentLink8Description: https://datasheet.octopart.com:443/RC0603FR-0710KL-Yageo-datasheet-62067350.pdf?src-supplier=element14+APAC; ComponentLink9URL: https://datasheet.octopart.com:443/RC0603FR-0710KL-Yageo-datasheet-17842380.pdf?src-supplier=element14+APAC; ComponentLink9Description: https://datasheet.octopart.com:443/RC0603FR-0710KL-Yageo-datasheet-17842380.pdf?src-supplier=element14+APAC; ComponentLink10URL: https://datasheet.octopart.com:443/RC0603FR-0710KL-Yageo-datasheet-15599030.pdf?src-supplier=Future+Electronics; ComponentLink10Description: https://datasheet.octopart.com:443/RC0603FR-0710KL-Yageo-datasheet-15599030.pdf?src-supplier=Future+Electronics; ComponentLink11URL: https://datasheet.octopart.com:443/RC0603FR-0710KL-Yageo-Group-datasheet-176638170.pdf?src-supplier=Future+Electronics; ComponentLink11Description: https://datasheet.octopart.com:443/RC0603FR-0710KL-Yageo-Group-datasheet-176638170.pdf?src-supplier=Future+Electronics; ComponentLink12URL: https://datasheet.octopart.com:443/RC0603FR-0710KL-Yageo-datasheet-164759695.pdf?src-supplier=Future+Electronics; ComponentLink12Description: https://datasheet.octopart.com:443/RC0603FR-0710KL-Yageo-datasheet-164759695.pdf?src-supplier=Future+Electronics; ComponentLink13URL: https://datasheet.octopart.com:443/RC0603FR-0710KL-Yageo-datasheet-127823281.pdf?src-supplier=Future+Electronics; ComponentLink13Description: https://datasheet.octopart.com:443/RC0603FR-0710KL-Yageo-datasheet-127823281.pdf?src-supplier=Future+Electronics; ComponentLink14URL: https://datasheet.octopart.com:443/RC0603FR-0710KL-Yageo-datasheet-137700087.pdf?src-supplier=Future+Electronics; ComponentLink14Description: https://datasheet.octopart.com:443/RC0603FR-0710KL-Yageo-datasheet-137700087.pdf?src-supplier=Future+Electronics; ComponentLink15URL: https://datasheet.octopart.com:443/RC0603FR-0710KL-Yageo-datasheet-27584510.pdf?src-supplier=Future+Electronics; ComponentLink15Description: https://datasheet.octopart.com:443/RC0603FR-0710KL-Yageo-datasheet-27584510.pdf?src-supplier=Future+Electronics; ComponentLink16URL: https://datasheet.octopart.com:443/RC0603FR-0710KL-Yageo-datasheet-8324193.pdf?src-supplier=Future+Electronics; ComponentLink16Description: https://datasheet.octopart.com:443/RC0603FR-0710KL-Yageo-datasheet-8324193.pdf?src-supplier=Future+Electronics; ComponentLink17URL: https://datasheet.octopart.com:443/RC0603FR-0710KL-Yageo-datasheet-12596169.pdf?src-supplier=Newark; ComponentLink17Description: https://datasheet.octopart.com:443/RC0603FR-0710KL-Yageo-datasheet-12596169.pdf?src-supplier=Newark; ComponentLink18URL: https://datasheet.octopart.com:443/RC0603FR-0710KL-Yageo-datasheet-503470.pdf?src-supplier=Newark; ComponentLink18Description: https://datasheet.octopart.com:443/RC0603FR-0710KL-Yageo-datasheet-503470.pdf?src-supplier=Newark; ComponentLink19URL: https://datasheet.octopart.com:443/RC0603FR-0710KL-Yageo-datasheet-34211833.pdf?src-supplier=Newark; ComponentLink19Description: https://datasheet.octopart.com:443/RC0603FR-0710KL-Yageo-datasheet-34211833.pdf?src-supplier=Newark; ComponentLink20URL: https://datasheet.octopart.com:443/RC0603FR-0710KL-Yageo-datasheet-79472498.pdf?src-supplier=Megastar; ComponentLink20Description: https://datasheet.octopart.com:443/RC0603FR-0710KL-Yageo-datasheet-79472498.pdf?src-supplier=Megastar; ComponentLink21URL: https://datasheet.octopart.com/RC0603FR-0710KL-Yageo-datasheet-73766026.pdf; ComponentLink21Description: https://datasheet.octopart.com/RC0603FR-0710KL-Yageo-datasheet-73766026.pdf; ComponentLink22URL: https://datasheet.octopart.com:443/RC0603FR-0710KL-Yageo-datasheet-118562.pdf?src-supplier=DigiKey; ComponentLink22Description: https://datasheet.octopart.com:443/RC0603FR-0710KL-Yageo-datasheet-118562.pdf?src-supplier=DigiKey; ComponentLink23URL: http://sigma.octopart.com:80/conflict_mineral_statement/Yageo-company-3.pdf?src-supplier=Compliance+Statements; ComponentLink23Description: http://sigma.octopart.com:80/conflict_mineral_statement/Yageo-company-3.pdf?src-supplier=Compliance+Statements; ComponentLink24URL: http://sigma.octopart.com:80/rohs_statement/Yageo-company-2.pdf?src-supplier=Compliance+Statements; ComponentLink24Description: http://sigma.octopart.com:80/rohs_statement/Yageo-company-2.pdf?src-supplier=Compliance+Statements
footprint FP-RC0603-0_55-IPC_B
pins: 1, 2

## RC0805FR-071KL
designator R?, comment New1kRes
Yageo RC0805FR-071KL SMD Resistor 0603 1k Ohm ±1% Thick Film; Manufacturer: Yageo Group; Max Power Dissipation: 125mW; Value: 1kΩ; Temperature Coefficient: 100ppm/°C; Voltage Rating: 150V; Supplier: DigiKey; Supplier Part Number: 311-1.00KCRDKR-ND; Manufacturer Part Number: RC0805FR-071KL; RoHS: Compliant; Category: Chip SMD Resistors; Stock: 1641782; Pricing: 1=0.1, 10=0.008, 25=0.0072 (USD); Case/Package: 0805; Case Code (Imperial): 0805; China RoHS: Non-Compliant; Composition: Thick Film; Depth: 1.25mm; Features: Moisture Resistant; Height: 500µm; Lead Free: Lead Free; Length: 2mm; Lifecycle Status: Production; Max Operating Temperature: 155°C; Military Standard: Not; Min Operating Temperature: -55°C; Mounting Technology: Surface Mount; Pins: 2; Number of Terminals: 2; Number of Terminations: 2; Packaging: Tape & Reel; Power Dissipation: 125mW; Power Rating: 125mW; REACH SVHC: Yes; Schedule B: 8533210045, 8533210045|8533210045, 8533210045|8533210045|8533210045, 8533210045|8533210045|8533210045|8533210045; Termination: SMD/SMT; Tolerance: 1%; Voltage Rating (AC): 150V; Voltage Rating (DC): 150V; Width: 1.25mm; Working Voltage: 150V; ComponentLink1URL: https://datasheet.octopart.com:443/RC0805FR-071KL-Yageo-datasheet-175887523.pdf?src-supplier=IHS; ComponentLink1Description: https://datasheet.octopart.com:443/RC0805FR-071KL-Yageo-datasheet-175887523.pdf?src-supplier=IHS; ComponentLink2URL: https://datasheet.octopart.com:443/RC0805FR-071KL-Yageo-datasheet-103092701.pdf?src-supplier=Upverter; ComponentLink2Description: https://datasheet.octopart.com:443/RC0805FR-071KL-Yageo-datasheet-103092701.pdf?src-supplier=Upverter; ComponentLink3URL: https://datasheet.octopart.com:443/RC0805FR-071KL-Yageo-datasheet-8330313.pdf?src-supplier=element14+APAC; ComponentLink3Description: https://datasheet.octopart.com:443/RC0805FR-071KL-Yageo-datasheet-8330313.pdf?src-supplier=element14+APAC; ComponentLink4URL: https://datasheet.octopart.com:443/RC0805FR-071KL-Yageo-datasheet-62067350.pdf?src-supplier=element14+APAC; ComponentLink4Description: https://datasheet.octopart.com:443/RC0805FR-071KL-Yageo-datasheet-62067350.pdf?src-supplier=element14+APAC; ComponentLink5URL: https://datasheet.octopart.com:443/RC0805FR-071KL-Yageo-datasheet-12592811.pdf?src-supplier=element14+APAC; ComponentLink5Description: https://datasheet.octopart.com:443/RC0805FR-071KL-Yageo-datasheet-12592811.pdf?src-supplier=element14+APAC; ComponentLink6URL: https://datasheet.octopart.com:443/RC0805FR-071KL-Yageo-Group-datasheet-190305687.pdf?src-supplier=Newark; ComponentLink6Description: https://datasheet.octopart.com:443/RC0805FR-071KL-Yageo-Group-datasheet-190305687.pdf?src-supplier=Newark; ComponentLink7URL: https://datasheet.octopart.com:443/RC0805FR-071KL-Yageo-Group-datasheet-176638170.pdf?src-supplier=Future+Electronics; ComponentLink7Description: https://datasheet.octopart.com:443/RC0805FR-071KL-Yageo-Group-datasheet-176638170.pdf?src-supplier=Future+Electronics; ComponentLink8URL: https://datasheet.octopart.com:443/RC0805FR-071KL-Yageo-datasheet-164759695.pdf?src-supplier=Future+Electronics; ComponentLink8Description: https://datasheet.octopart.com:443/RC0805FR-071KL-Yageo-datasheet-164759695.pdf?src-supplier=Future+Electronics; ComponentLink9URL: https://datasheet.octopart.com:443/RC0805FR-071KL-Yageo-datasheet-8324252.pdf?src-supplier=Future+Electronics; ComponentLink9Description: https://datasheet.octopart.com:443/RC0805FR-071KL-Yageo-datasheet-8324252.pdf?src-supplier=Future+Electronics; ComponentLink10URL: https://datasheet.octopart.com:443/RC0805FR-071KL-Yageo-datasheet-79472498.pdf?src-supplier=Megastar; ComponentLink10Description: https://datasheet.octopart.com:443/RC0805FR-071KL-Yageo-datasheet-79472498.pdf?src-supplier=Megastar; ComponentLink11URL: https://datasheet.octopart.com/RC0805FR-071KL-Yageo-datasheet-73766026.pdf; ComponentLink11Description: https://datasheet.octopart.com/RC0805FR-071KL-Yageo-datasheet-73766026.pdf; ComponentLink12URL: https://datasheet.octopart.com:443/RC0805FR-071KL-Yageo-datasheet-13691069.pdf?src-supplier=Farnell; ComponentLink12Description: https://datasheet.octopart.com:443/RC0805FR-071KL-Yageo-datasheet-13691069.pdf?src-supplier=Farnell; ComponentLink13URL: https://datasheet.octopart.com:443/RC0805FR-071KL-Yageo-datasheet-118657.pdf?src-supplier=DigiKey; ComponentLink13Description: https://datasheet.octopart.com:443/RC0805FR-071KL-Yageo-datasheet-118657.pdf?src-supplier=DigiKey; ComponentLink14URL: https://datasheet.octopart.com:443/RC0805FR-071KL-Yageo-datasheet-502840.pdf?src-supplier=element14; ComponentLink14Description: https://datasheet.octopart.com:443/RC0805FR-071KL-Yageo-datasheet-502840.pdf?src-supplier=element14; ComponentLink15URL: http://sigma.octopart.com:80/conflict_mineral_statement/Yageo-company-3.pdf?src-supplier=Compliance+Statements; ComponentLink15Description: http://sigma.octopart.com:80/conflict_mineral_statement/Yageo-company-3.pdf?src-supplier=Compliance+Statements; ComponentLink16URL: http://sigma.octopart.com:80/rohs_statement/Yageo-company-2.pdf?src-supplier=Compliance+Statements; ComponentLink16Description: http://sigma.octopart.com:80/rohs_statement/Yageo-company-2.pdf?src-supplier=Compliance+Statements
footprint RESC2013X60X35NL10T20 (Chip Resistor, 2-Leads, Body 2.1x1.35mm, IPC Medium Density)
pins: 1, 2

## RC0805FR-0710KL
designator R?, comment new10KRes
Res Thick Film 0805 10K Ohm 1% 0.125W(1/8W) +/-100ppm/C Epoxy Pad SMD T/R; Manufacturer: Yageo Group; Manufacturer Part Number: RC0805FR-0710KL; Max Power Dissipation: 125mW; Value: 10kΩ; Temperature Coefficient: 100ppm/°C; Voltage Rating: 150V; Supplier: DigiKey; Supplier Part Number: 311-10.0KCRDKR-ND; RoHS: Compliant; Category: Chip SMD Resistors; Stock: 992459; Pricing: 1=0.12, 10=0.009, 25=0.0088, 50=0.0082, 100=0.0071 (USD); Case/Package: 0805; Case Code (Imperial): 0805; China RoHS: Non-Compliant; Composition: Thick Film; Depth: 1.25mm; Features: Moisture Resistant; Height: 500µm; Lead Free: Lead Free; Length: 2mm; Lifecycle Status: Production; Max Operating Temperature: 155°C; Military Standard: Not; Min Operating Temperature: -55°C; Mounting Technology: Surface Mount; Pins: 2; Number of Terminals: 2; Number of Terminations: 2; Packaging: Tape and Reel; Power Dissipation: 125mW; Power Rating: 125mW; REACH SVHC: Yes; Schedule B: 8533210045, 8533210045|8533210045|8533210045|8533210045|8533210045|8533210045|8533210045|8533210045|8533210045|8533210045|8533210045|8533210045|8533210045|8533210045|8533210045|8533210045|8533210045|8533210045|8533210045|8533210045|8533210045|8533210045|8533210045|85; Termination: SMD/SMT; Tolerance: 1%; Voltage Rating (AC): 150V; Width: 1.25mm; Working Voltage: 150V; ComponentLink1URL: https://datasheet.octopart.com:443/RC0805FR-0710KL-Yageo-datasheet-175887523.pdf?src-supplier=Newark; ComponentLink1Description: https://datasheet.octopart.com:443/RC0805FR-0710KL-Yageo-datasheet-175887523.pdf?src-supplier=Newark; ComponentLink2URL: https://datasheet.octopart.com:443/RC0805FR-0710KL-Yageo-datasheet-62067350.pdf?src-supplier=Farnell; ComponentLink2Description: https://datasheet.octopart.com:443/RC0805FR-0710KL-Yageo-datasheet-62067350.pdf?src-supplier=Farnell; ComponentLink3URL: https://datasheet.octopart.com:443/RC0805FR-0710KL-Yageo-datasheet-13691069.pdf?src-supplier=Farnell; ComponentLink3Description: https://datasheet.octopart.com:443/RC0805FR-0710KL-Yageo-datasheet-13691069.pdf?src-supplier=Farnell; ComponentLink4URL: https://datasheet.octopart.com:443/RC0805FR-0710KL-Yageo-datasheet-103092701.pdf?src-supplier=Upverter; ComponentLink4Description: https://datasheet.octopart.com:443/RC0805FR-0710KL-Yageo-datasheet-103092701.pdf?src-supplier=Upverter; ComponentLink5URL: https://datasheet.octopart.com:443/RC0805FR-0710KL-Yageo-datasheet-98239111.pdf?src-supplier=Upverter; ComponentLink5Description: https://datasheet.octopart.com:443/RC0805FR-0710KL-Yageo-datasheet-98239111.pdf?src-supplier=Upverter; ComponentLink6URL: https://datasheet.octopart.com:443/RC0805FR-0710KL-Yageo---Phycomp-datasheet-67302840.pdf?src-supplier=Upverter; ComponentLink6Description: https://datasheet.octopart.com:443/RC0805FR-0710KL-Yageo---Phycomp-datasheet-67302840.pdf?src-supplier=Upverter; ComponentLink7URL: https://datasheet.octopart.com:443/RC0805FR-0710KL-Yageo-datasheet-8330313.pdf?src-supplier=element14+APAC; ComponentLink7Description: https://datasheet.octopart.com:443/RC0805FR-0710KL-Yageo-datasheet-8330313.pdf?src-supplier=element14+APAC; ComponentLink8URL: https://datasheet.octopart.com:443/RC0805FR-0710KL-Yageo-datasheet-12592811.pdf?src-supplier=element14+APAC; ComponentLink8Description: https://datasheet.octopart.com:443/RC0805FR-0710KL-Yageo-datasheet-12592811.pdf?src-supplier=element14+APAC; ComponentLink9URL: https://datasheet.octopart.com:443/RC0805FR-0710KL-Yageo-Group-datasheet-190305687.pdf?src-supplier=Future+Electronics; ComponentLink9Description: https://datasheet.octopart.com:443/RC0805FR-0710KL-Yageo-Group-datasheet-190305687.pdf?src-supplier=Future+Electronics; ComponentLink10URL: https://datasheet.octopart.com:443/RC0805FR-0710KL-Yageo-datasheet-164759695.pdf?src-supplier=Future+Electronics; ComponentLink10Description: https://datasheet.octopart.com:443/RC0805FR-0710KL-Yageo-datasheet-164759695.pdf?src-supplier=Future+Electronics; ComponentLink11URL: https://datasheet.octopart.com:443/RC0805FR-0710KL-Yageo-datasheet-15800360.pdf?src-supplier=Future+Electronics; ComponentLink11Description: https://datasheet.octopart.com:443/RC0805FR-0710KL-Yageo-datasheet-15800360.pdf?src-supplier=Future+Electronics; ComponentLink12URL: https://datasheet.octopart.com:443/RC0805FR-0710KL-Yageo-datasheet-8324252.pdf?src-supplier=Future+Electronics; ComponentLink12Description: https://datasheet.octopart.com:443/RC0805FR-0710KL-Yageo-datasheet-8324252.pdf?src-supplier=Future+Electronics; ComponentLink13URL: https://datasheet.octopart.com:443/RC0805FR-0710KL-Yageo-datasheet-79472498.pdf?src-supplier=Megastar; ComponentLink13Description: https://datasheet.octopart.com:443/RC0805FR-0710KL-Yageo-datasheet-79472498.pdf?src-supplier=Megastar; ComponentLink14URL: https://datasheet.octopart.com:443/RC0805FR-0710KL-Yageo-datasheet-27714392.pdf?src-supplier=Seeed+Studio; ComponentLink14Description: https://datasheet.octopart.com:443/RC0805FR-0710KL-Yageo-datasheet-27714392.pdf?src-supplier=Seeed+Studio; ComponentLink15URL: https://datasheet.octopart.com/RC0805FR-0710KL-Yageo-datasheet-73766026.pdf; ComponentLink15Description: https://datasheet.octopart.com/RC0805FR-0710KL-Yageo-datasheet-73766026.pdf; ComponentLink16URL: https://datasheet.octopart.com:443/RC0805FR-0710KL-Yageo-datasheet-118657.pdf?src-supplier=DigiKey; ComponentLink16Description: https://datasheet.octopart.com:443/RC0805FR-0710KL-Yageo-datasheet-118657.pdf?src-supplier=DigiKey; ComponentLink17URL: https://datasheet.octopart.com:443/RC0805FR-0710KL-Yageo-datasheet-502840.pdf?src-supplier=element14; ComponentLink17Description: https://datasheet.octopart.com:443/RC0805FR-0710KL-Yageo-datasheet-502840.pdf?src-supplier=element14; ComponentLink18URL: http://sigma.octopart.com:80/conflict_mineral_statement/Yageo-company-3.pdf?src-supplier=Compliance+Statements; ComponentLink18Description: http://sigma.octopart.com:80/conflict_mineral_statement/Yageo-company-3.pdf?src-supplier=Compliance+Statements; ComponentLink19URL: http://sigma.octopart.com:80/rohs_statement/Yageo-company-2.pdf?src-supplier=Compliance+Statements; ComponentLink19Description: http://sigma.octopart.com:80/rohs_statement/Yageo-company-2.pdf?src-supplier=Compliance+Statements
footprint RESC2013X60X35NL10T20 (Chip Resistor, 2-Leads, Body 2.1x1.35mm, IPC Medium Density)
pins: 1, 2

## TB6612FNG,C,8,EL
designator U?, comment Motor Driver
DC Motor Driver 2.7V to 5.5V 24-Pin SSOP Embossed T/R; Manufacturer: Toshiba; Manufacturer Part Number: TB6612FNG,C,8,EL; Manufacturer Package Identifier: SSOP24-P-300-0.65A; Interface: Parallel; Logic Function: AND; Max Output current: 1A; Max Power Dissipation: 1.36W; Max Supply Current: 2.2mA; Motor Type: Brushed; Number of Channels: 2; Operating Supply Voltage: 3V; Output Voltage: 15V; Switching Frequency: 100kHz; Supplier: DigiKey; Supplier Part Number: TB6612FNGC8ELCT-ND; RoHS: Compliant; Category: Motor Drivers; Stock: 32978; Pricing: 1=1.82, 10=1.336, 25=1.216, 100=1.0835, 250=1.02036, 500=0.98226, 1000=0.95091 (USD); Case/Package: LSSOP; Height: 1.6mm; Height - Seated (Max): 1.6mm; Length: 7.8mm; Lifecycle Status: Production; Max Operating Temperature: 85°C; Max Supply Voltage: 5.5V; Min Operating Temperature: -20°C; Min Supply Voltage: 2.7V; Mounting Technology: Surface Mount; Number of Circuits: 2; Number of Outputs: 2; Pins: 24; Number of Terminals: 24; Output Current: 1A; Packaging: Cut Tape (CT); REACH SVHC: Yes; Schedule B: 8542390000, 8542390000|8542390000|8542390000|8542390000|8542390000|8542390000|8542390000|8542390000|8542390000|8542390000|8542390000|8542390000|8542390000|8542390000|8542390000|8542390000|8542390000|8542390000|8542390000|8542390000|8542390000|8542390000|8542390000|85; Terminal Pitch: 650µm; Width: 5.6mm; ComponentLink1URL: https://datasheet.octopart.com:443/TB6612FNG%2CC%2C8%2CEL-Toshiba-datasheet-137045272.pdf?src-supplier=IHS; ComponentLink1Description: https://datasheet.octopart.com:443/TB6612FNG%2CC%2C8%2CEL-Toshiba-datasheet-137045272.pdf?src-supplier=IHS; ComponentLink2URL: https://datasheet.octopart.com:443/TB6612FNG%28O%2CC8%2CEL%29-Toshiba-datasheet-141427499.pdf?src-supplier=Upverter; ComponentLink2Description: https://datasheet.octopart.com:443/TB6612FNG%28O%2CC8%2CEL%29-Toshiba-datasheet-141427499.pdf?src-supplier=Upverter; ComponentLink3URL: https://datasheet.octopart.com/TB6612FNG%2CC%2C8%2CEL-Toshiba-datasheet-32979960.pdf; ComponentLink3Description: https://datasheet.octopart.com/TB6612FNG%2CC%2C8%2CEL-Toshiba-datasheet-32979960.pdf; ComponentLink4URL: https://datasheet.octopart.com/TB6612FNG%28O%2CC%2C8%2CEL-Toshiba-datasheet-13326806.pdf; ComponentLink4Description: https://datasheet.octopart.com/TB6612FNG%28O%2CC%2C8%2CEL-Toshiba-datasheet-13326806.pdf
footprint FP-SSOP24-P-300-0_65A-IPC_A
pins: 1 AO1 (oc), 2 AO1 (oc), 3 PGND1 (power), 4 PGND1 (power), 5 AO2 (oc), 6 AO2 (oc), 7 BO2 (oc), 8 BO2 (oc), 9 PGND2 (power), 10 PGND2 (power), 11 BO1 (oc), 12 BO1 (oc), 13 VM2 (power), 14 VM3 (power), 15 PWMB (in), 16 BIN2 (in), 17 BIN1 (in), 18 GND (power), 19 STBY (in), 20 VCC (power), 21 AIN1 (in), 22 AIN2 (in), 23 PWMA (in), 24 VM1 (power)